# Altium schematic symbol library LogicICs.SchLib: 1 symbol
Pins are listed as number, name and electrical type; pins without a type are passive.

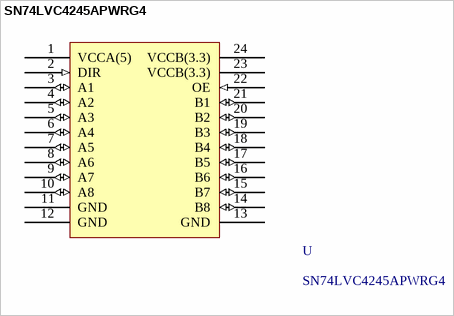
[diagram p0: symbol SN74LVC4245APWRG4]

## SN74LVC4245APWRG4
designator U
footprint LC-TSSOP-24
pins: 1 VCCA(5) (power), 2 DIR (in), 3 A1 (io), 4 A2 (io), 5 A3 (io), 6 A4 (io), 7 A5 (io), 8 A6 (io), 9 A7 (io), 10 A8 (io), 11 GND (power), 12 GND (power), 13 GND (power), 14 B8 (io), 15 B7 (io), 16 B6 (io), 17 B5 (io), 18 B4 (io), 19 B3 (io), 20 B2 (io), 21 B1 (io), 22 OE (in), 23 VCCB(3.3) (power), 24 VCCB(3.3) (power)